# EAGLE library part KSZ8061RND (library smd-footprints)
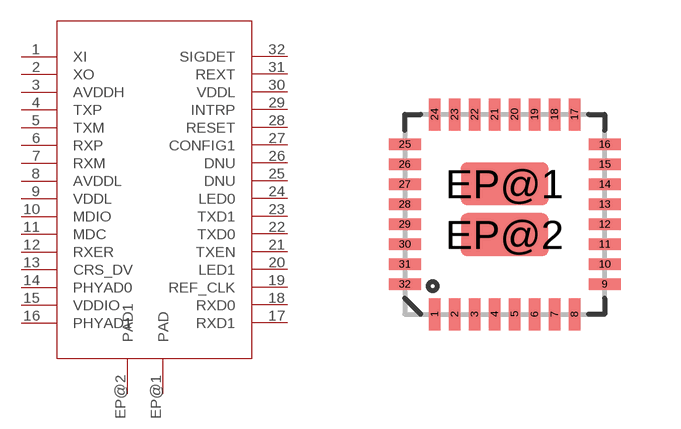
[diagram p0: symbol with the pads of QFN-32-THERMAL; footprint QFN-32-THERMAL]

Designator prefix -

## KSZ8061RND  [QFN-32-THERMAL]
1  XI
2  XO
3  AVDDH
4  TXP
5  TXM
6  RXP
7  RXM
8  AVDDL
9  VDDL
10  MDIO
11  MDC
12  RXER
13  CRS_DV
14  PHYAD0
15  VDDIO
16  PHYAD1
17  RXD1
18  RXD0
19  REF_CLK
20  LED1
21  TXEN
22  TXD0
23  TXD1
24  LED0
25  DNU
26  DNU
27  CONFIG1
28  RESET
29  INTRP
30  VDDL
31  REXT
32  SIGDET
EP@1  PAD
EP@2  PAD1

## Footprint QFN-32-THERMAL (pad centres in mm)
smd 0.285 x 0.8: 1 -1.75,-2.5; 2 -1.25,-2.5; 3 -0.75,-2.5; 4 -0.25,-2.5; 5 0.25,-2.5; 6 0.75,-2.5; 7 1.25,-2.5; 8 1.75,-2.5; 17 1.75,2.5; 18 1.25,2.5; 19 0.75,2.5; 20 0.25,2.5; 21 -0.25,2.5; 22 -0.75,2.5; 23 -1.25,2.5; 24 -1.75,2.5
smd 0.8 x 0.285: 9 2.5,-1.75; 10 2.5,-1.25; 11 2.5,-0.75; 12 2.5,-0.25; 13 2.5,0.25; 14 2.5,0.75; 15 2.5,1.25; 16 2.5,1.75; 25 -2.5,1.75; 26 -2.5,1.25; 27 -2.5,0.75; 28 -2.5,0.25; 29 -2.5,-0.25; 30 -2.5,-0.75; 31 -2.5,-1.25; 32 -2.5,-1.75
smd 2.184 x 1.067: EP@1 0,0.762; EP@2 0,-0.508